# EAGLE library part LOGIC,D-TYPE:MC10EP31(ECL/PECL) (library QuantumOptics)
MC10EP31, D-Type Flip-Flop, with Set/Reset, ECL/PECL, +3.3/+5V. e.g. http://www.onsemi.com/pub/Collateral/MC10EP31-D.PDF
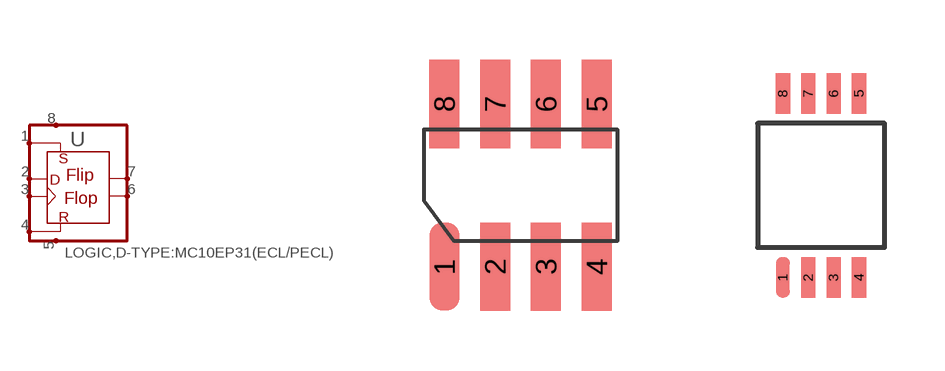
[diagram p89: symbol with the pads of SOIC-8; footprints SOIC-8, TSSOP-8]

Designator prefix U

## LOGIC,D-TYPE:MC10EP31(ECL/PECL)-SOIC8  [SOIC-8]
1  S  in
2  D  in
3  CLK  in
4  R  in
5  VEE  in
6  ~Q  out
7  Q  out
8  VCC  in

## LOGIC,D-TYPE:MC10EP31(ECL/PECL)-TSSOP8  [TSSOP-8]
Pads as for SOIC-8

## Footprint SOIC-8 (pad centres in mm)
SOIC-8 (AKA SO-8), pads on 0.050" grid.
smd 0.75 x 2.2: 1 -1.27,-2.032; 2 0,-2.032; 3 1.27,-2.032; 4 2.54,-2.032; 5 2.54,2.032; 6 1.27,2.032; 7 0,2.032; 8 -1.27,2.032

## Footprint TSSOP-8 (pad centres in mm)
TSSOP-8, use 0.025" grid. Metric device but fits well on imperial.
smd 0.356 x 1.016: 1 -1.02,-2.3; 2 -0.385,-2.3; 3 0.25,-2.3; 4 0.885,-2.3; 5 0.885,2.3; 6 0.25,2.3; 7 -0.385,2.3; 8 -1.02,2.3